# EAGLE library part ACCELEROMETER (library myLib)
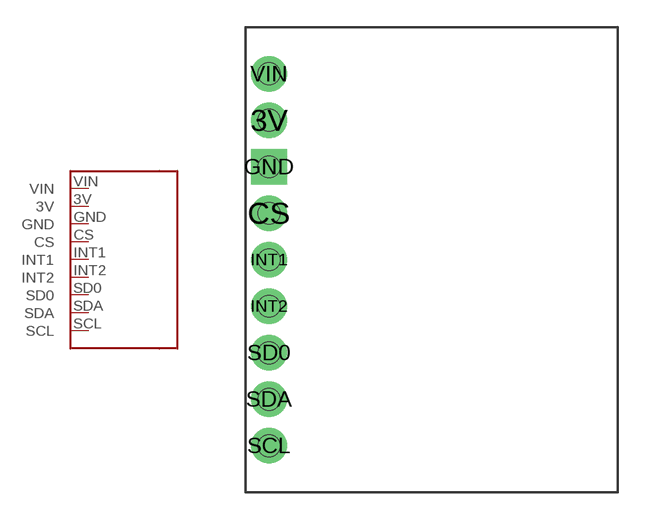
[diagram p2: symbol with the pads of ACCELEROMETER; footprint ACCELEROMETER]

Designator prefix -

## ACCELEROMETER  [ACCELEROMETER]
3V  3V
CS  CS
GND  GND
INT1  INT1
INT2  INT2
SCL  SCL
SD0  SD0
SDA  SDA
VIN  VIN

## Footprint ACCELEROMETER (pad centres in mm)
drill 1.3: 3V -8.89,7.62; CS -8.89,2.54; INT1 -8.89,0; INT2 -8.89,-2.54; SCL -8.89,-10.16; SD0 -8.89,-5.08; SDA -8.89,-7.62; VIN -8.89,10.16
drill 1.3 square: GND -8.89,5.08
hole 1.2 at -8.89,10.16
hole 1.2 at -8.89,7.62
hole 1.2 at -8.89,5.08
hole 1.2 at -8.89,2.54
hole 1.2 at -8.89,0
hole 1.2 at -8.89,-2.54
hole 1.2 at -8.89,-5.08
hole 1.2 at -8.89,-7.62
hole 1.2 at -8.89,-10.16